# Altium schematic symbol library LT.SchLib: 9 symbols
Pins are listed as number, name and electrical type; pins without a type are passive.

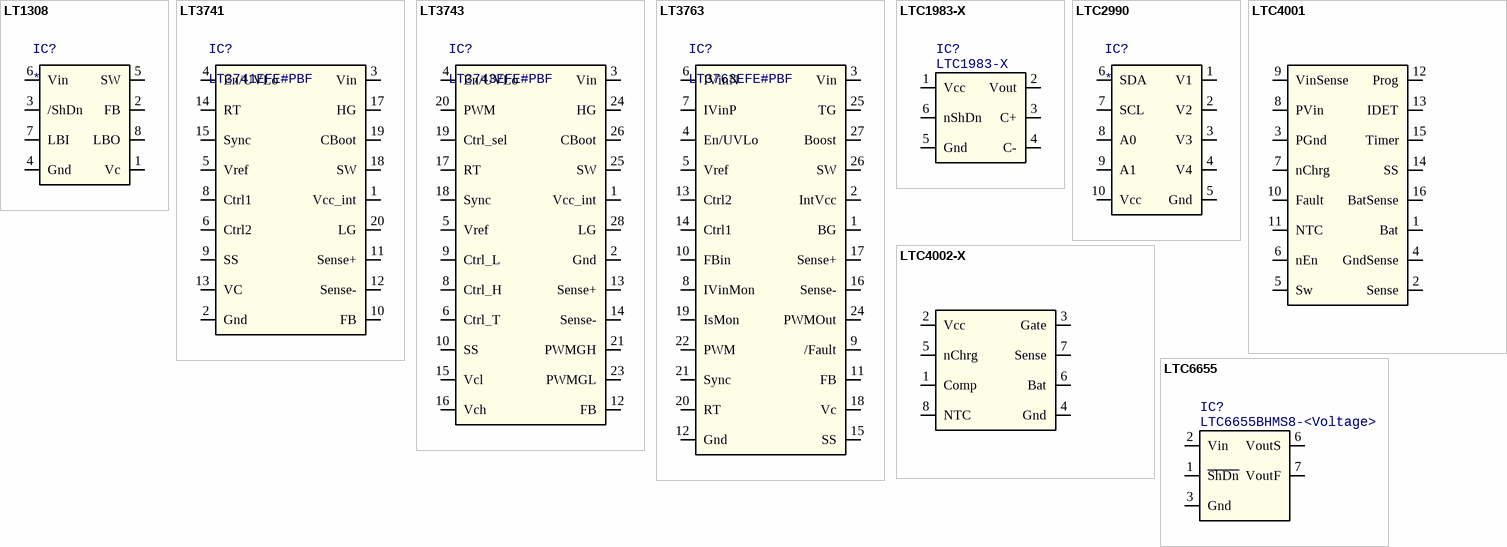
[diagram p0: symbols LT1308 to LTC6655]

## LT1308
designator IC?
1A Step Up Converter; Manufacturer 1: LT; Manufacturer Part Number 1: LT1308; Supplier 1: Farnell
footprint SOIC127P590X175-8N (SOIC, 8-Leads, Body 4.90x3.90mm, Pitch 1.27mm, IPC Medium Density)
pins: 1 Vc, 2 FB, 3 /ShDn, 4 Gnd (power), 5 SW, 6 Vin (power), 7 LBI, 8 LBO

## LT3741
designator IC?, comment LT3741EFE#PBF
LED Driver; Manufacturer 1: LT; Supplier 1: Farnell; Supplier Part Number 1: 2294948; Manufacturer Part Number 1: LT3741EFE#PBF
footprint TSOP65P640X120_HS-21N (TSOP, 20-Leads, Body 6.60x4.40mm, Pitch 0.65mm, Thermal Pad 3.86x2.74mm, IPC Medium Density)
pins: 1 Vcc_int, 2 Gnd (power), 3 Vin (power), 4 En/UVLo, 5 Vref, 6 Ctrl2, 7 Gnd (power), 8 Ctrl1, 9 SS, 10 FB, 11 Sense+, 12 Sense-, 13 VC, 14 RT, 15 Sync, 16 Gnd (power), 17 HG, 18 SW, 19 CBoot, 20 LG, 21 Gnd

## LT3743
designator IC?, comment LT3743EFE#PBF
LED Driver; Manufacturer 1: LT; Supplier 1: Farnell; Supplier Part Number 1: 1839162; Manufacturer Part Number 1: LT3743EFE#PBF
footprint TSOP65P640X120_HS-29N (TSOP, 28-Leads, Body 9.70x4.40mm, Pitch 0.65mm, Thermal Pad 4.75x2.74mm, IPC Medium Density)
pins: 1 Vcc_int, 2 Gnd (power), 3 Vin (power), 4 En/UVLo, 5 Vref, 6 Ctrl_T, 7 Gnd (power) hidden to Gnd, 8 Ctrl_H, 9 Ctrl_L, 10 SS, 11 Gnd (power) hidden to Gnd, 12 FB, 13 Sense+, 14 Sense-, 15 Vcl, 16 Vch, 17 RT, 18 Sync, 19 Ctrl_sel, 20 PWM, 21 PWMGH, 22 Gnd (power) hidden to Gnd, 23 PWMGL, 24 HG, 25 SW, 26 CBoot, 27 Gnd (power) hidden to Gnd, 28 LG, 29 Gnd (power) hidden to Gnd

## LT3763
designator IC?, comment LT3763EFE#PBF
LED Driver; Manufacturer 1: LT; Supplier 1: Farnell; Supplier Part Number 1: 2293099; Manufacturer Part Number 1: LT3763EFE#PBF
footprint TSOP65P640X120_HS-29N (TSOP, 28-Leads, Body 9.70x4.40mm, Pitch 0.65mm, Thermal Pad 4.75x2.74mm, IPC Medium Density)
pins: 1 BG, 2 IntVcc, 3 Vin (power), 4 En/UVLo, 5 Vref, 6 IVinN, 7 IVinP, 8 IVinMon, 9 /Fault, 10 FBin, 11 FB, 12 Gnd (power), 13 Ctrl2, 14 Ctrl1, 15 SS, 16 Sense-, 17 Sense+, 18 Vc, 19 IsMon, 20 RT, 21 Sync, 22 PWM, 23 Gnd (power) hidden to Gnd, 24 PWMOut, 25 TG, 26 SW, 27 Boost, 28 Gnd (power) hidden to Gnd

## LTC1983-X
designator IC?
DCDC-Converter / Charge Pump; Manufacturer 1: LT; Value: *; Manufacturer Part Number 1: LTC1983-X
footprint SOT23-6_N (SOT23, 6-Leads, Body 2,90x2,80mm, Pitch 0,95mm, IPC Medium Density)
pins: 1 Vcc (power), 2 Vout (power), 3 C+, 4 C-, 5 Gnd (power), 6 nShDn (power)

## LTC2990
designator IC?
Voltage / Current / Temp Measurement; Manufacturer Part Number 1: LTC2990; Manufacturer 1: LT; Value: *
footprint MSOP50P490X110-10N (MSOP, 10-Leads, Body 3.00x3.00mm, Pitch 0.50mm, IPC Medium Density)
pins: 1 V1, 2 V2, 3 V3, 4 V4, 5 Gnd (power), 6 SDA, 7 SCL, 8 A0, 9 A1, 10 Vcc (power)

## LTC4001
designator IC?
2A Li-Ion Single Cell Charger; Manufacturer 1: LT; Manufacturer Part Number 1: LTC4001; Value: *; Supplier 1: Farnell
footprint QFN65P400X400X80_HS-17N (QFN, 16-Leads, Body 4.00x4.00mm, Pitch 0.65mm, Thermal Pad 2.10x2.10mm, IPC Medium Density)
pins: 1 Bat, 2 Sense, 3 PGnd (power), 4 GndSense, 5 Sw, 6 nEn, 7 nChrg, 8 PVin (power), 9 VinSense, 10 Fault, 11 NTC, 12 Prog, 13 IDET, 14 SS, 15 Timer, 16 BatSense, 17 PGnd

## LTC4002-X
designator IC?
2A Li-Ion Single / Dual Cell Charger (SO-8); Manufacturer 1: LT; Value: *; Manufacturer Part Number 1: LTC4002-X; Supplier 1: Farnell
footprint SOIC127P590X175-8N (SOIC, 8-Leads, Body 4.90x3.90mm, Pitch 1.27mm, IPC Medium Density)
pins: 1 Comp, 2 Vcc (power), 3 Gate, 4 Gnd (power), 5 nChrg, 6 Bat, 7 Sense, 8 NTC

## LTC6655
designator IC?, comment LTC6655BHMS8-<Voltage>
Precision Voltage Reference; Manufacturer 1: Linear; Manufacturer Part Number 1: LTC6655BHMS8-<Voltage>
pins: 1 ~{ShDn}, 2 Vin, 3 Gnd (power), 4 Gnd (power), 5 Gnd (power), 6 VoutS, 7 VoutF, 8 Gnd (power)